# EAGLE library part OSTCXBTHC1E (library optosupply)
1W RGB HIGH POWER LED Source: http://www.optosupply.com/UploadFile/PDF/ostcxbthc1e.pdf
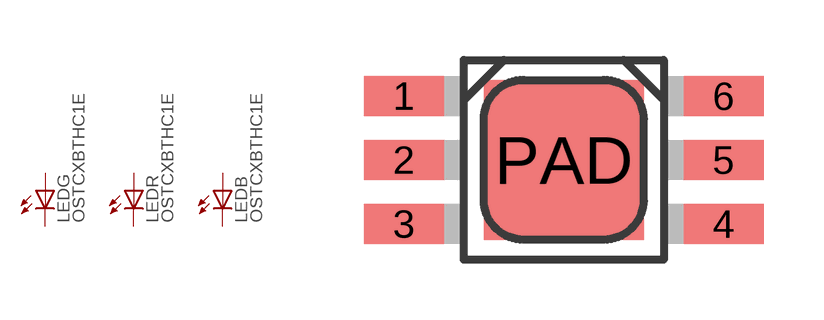
[diagram p0: symbol with the pads of OSTCXBTHC1E; footprint OSTCXBTHC1E]

Designator prefix LED; gates G=LED B=LED R=LED_WITH_ANODE_PAD

## OSTCXBTHC1E  [OSTCXBTHC1E]
1  G:C  pas
2  R:C  pas
3  B:C  pas
4  B:A  pas
5  R:A  pas
6  G:A  pas
PAD  R:A_PAD  pas

## Footprint OSTCXBTHC1E (pad centres in mm)
smd 2 x 1: 1 -4,1.6; 2 -4,0; 3 -4,-1.6; 4 4,-1.6; 5 4,0; 6 4,1.6
smd 4 x 4: PAD 0,0